# Altium schematic symbol library Schlib1.SchLib: 6 symbols
Pins are listed as number, name and electrical type; pins without a type are passive.

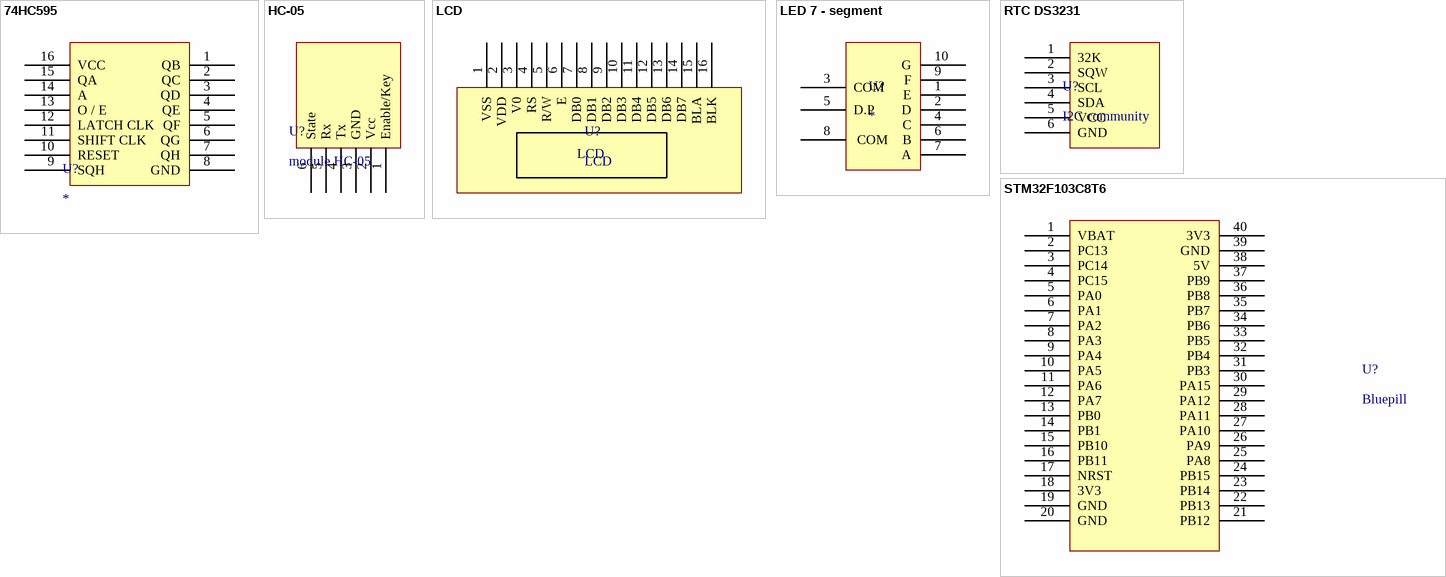
[diagram p0: symbols 74HC595 to STM32F103C8T6]

## 74HC595
designator U?
footprint 74HC595 (OC PWM CLOCK)
pins: 1 QB, 2 QC, 3 QD, 4 QE, 5 QF, 6 QG, 7 QH, 8 GND, 9 SQH, 10 RESET, 11 SHIFT CLK, 12 LATCH CLK, 13 O / E, 14 A, 15 QA, 16 VCC

## HC-05
designator U?, comment module HC-05
footprint HC-05 (module)
pins: 1 Enable/Key, 2 Vcc, 3 GND, 4 Tx, 5 Rx, 6 State

## LCD
designator U?
footprint LCD 1602
footprint LCD 2004
pins: 1 VSS, 2 VDD, 3 V0, 4 RS, 5 R/W, 6 E, 7 DB0, 8 DB1, 9 DB2, 10 DB3, 11 DB4, 12 DB5, 13 DB6, 14 DB7, 15 BLA, 16 BLK

## LED 7 - segment
designator U?
footprint LED 7 - segment
pins: 1 E, 2 D, 3 COM, 4 C, 5 D.P, 6 B, 7 A, 8  COM, 9 F, 10 G

## RTC DS3231
designator U?, comment I2C community
footprint RTC_DS3231 (I2C module)
footprint Model Name (Footprint not found)
pins: 1 32K, 2 SQW, 3 SCL, 4 SDA, 5 VCC, 6 GND

## STM32F103C8T6
designator U?, comment Bluepill
footprint STM32F103C8T6
pins: 1 VBAT, 2 PC13, 3 PC14, 4 PC15, 5 PA0, 6 PA1, 7 PA2, 8 PA3, 9 PA4, 10 PA5, 11 PA6, 12 PA7, 13 PB0, 14 PB1, 15 PB10, 16 PB11, 17 NRST, 18 3V3, 19 GND, 20 GND, 21 PB12, 22 PB13, 23 PB14, 24 PB15, 25 PA8, 26 PA9, 27 PA10, 28 PA11, 29 PA12, 30 PA15, 31 PB3, 32 PB4, 33 PB5, 34 PB6, 35 PB7, 36 PB8, 37 PB9, 38 5V, 39 GND, 40 3V3